# Altium footprint library Generals.PcbLib: 196 footprints (part 10 of 13)
Each footprint in its own frame and in the unit in brackets; x right, y up, seen from the top. Pads: shape width x height; smd on the part's side, far side on the other; paste and mask are expansions set on the pad; w line width, h text height; cw(c..) or ccw(c..) is an arc to the next point about the centre after c.
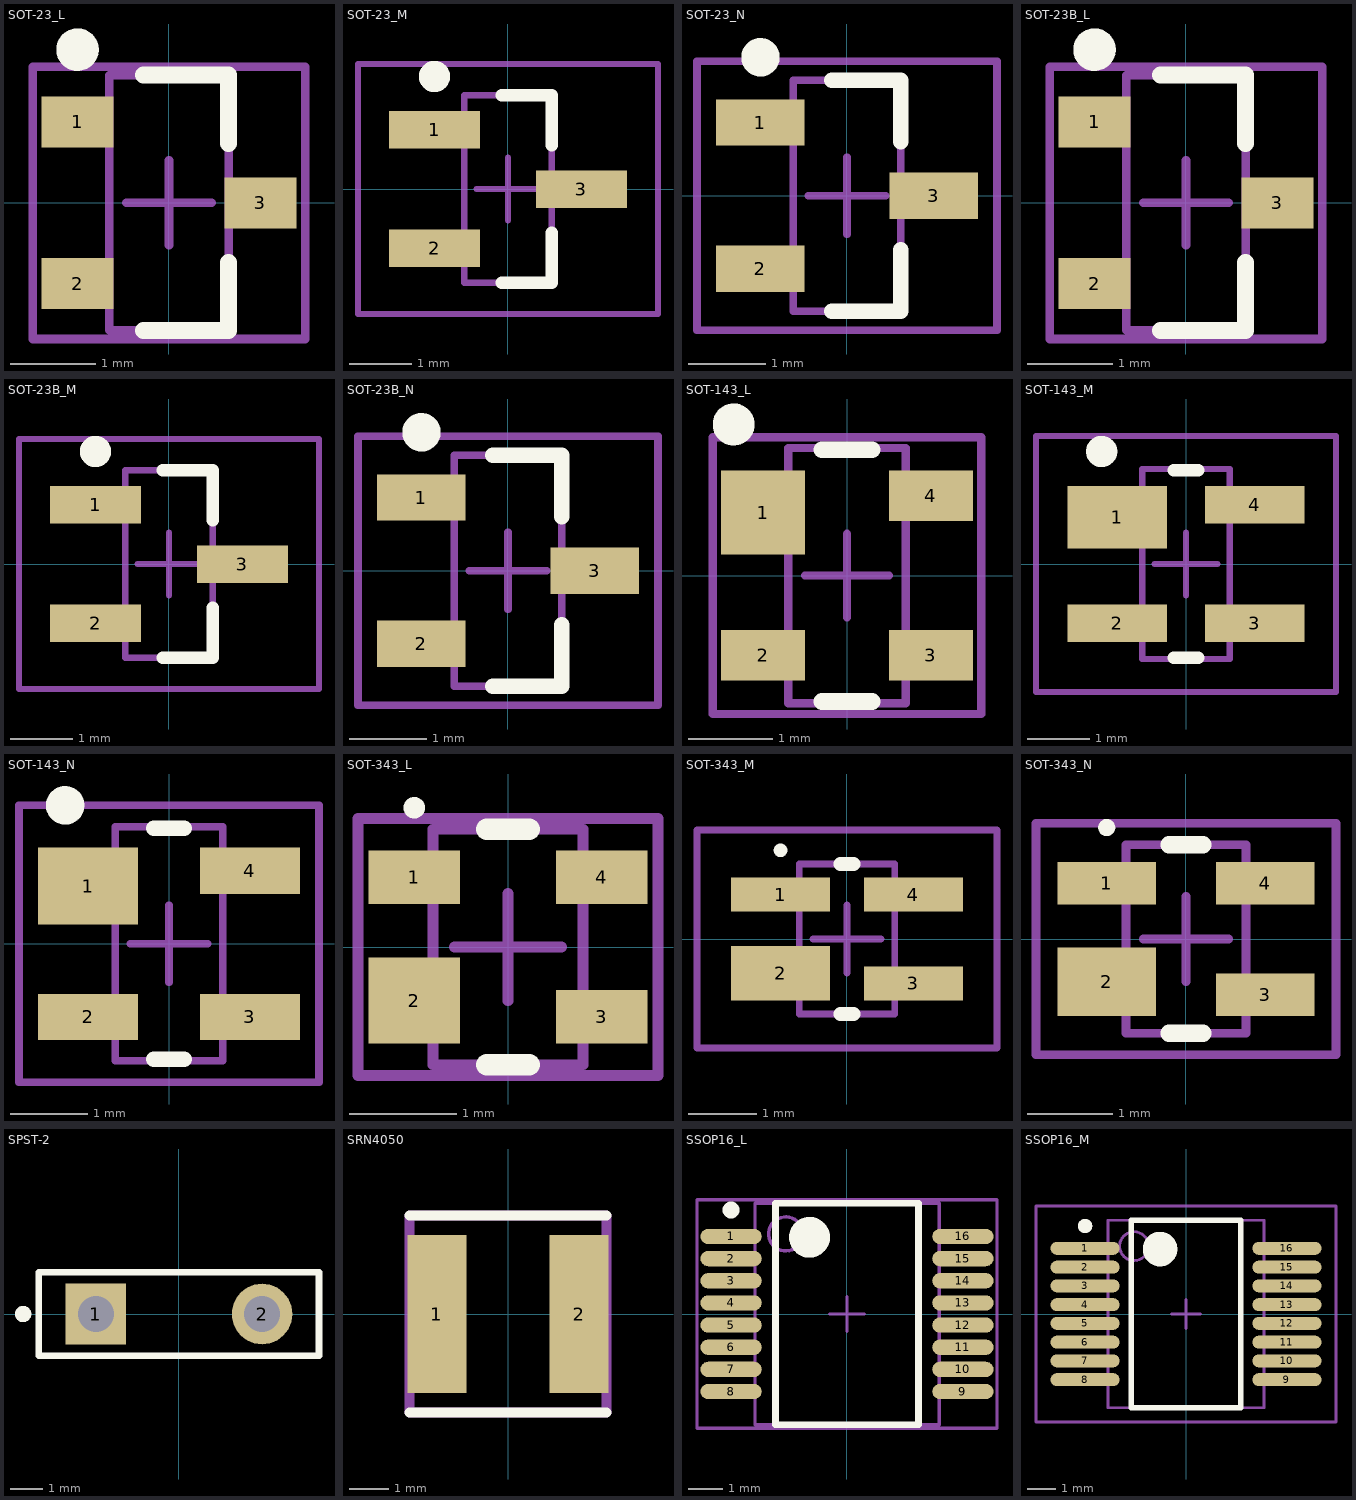
[diagram p9: the footprints below, top view; thin cyan lines are the x and y axes]

## SOT-23_L [mm] "SOT23, 3-Leads, Body 2.9x1.3mm, Pitch 0.95mm, Lead Span 2.5mm, IPC High Density"
height 1.1
pads (3):
  rect 0.85x0.6 smd: 1(-1.075,0.95) 2(-1.075,-0.95) 3(1.075,0)
Top Overlay:
  circle w0.25: c-1.075,1.8 r0.125
  lines w0.2: -0.3,-1.5 0.7,-1.5 0.7,-0.7 ; -0.3,1.5 0.7,1.5 0.7,0.7
Mechanical 13:
  lines w0.1: -0.7,-1.5 0.7,-1.5 0.7,1.5 -0.7,1.5 -0.7,-1.5
Mechanical 15:
  lines w0.1: -0.5,0 0.5,0 ; 0,-0.5 0,0.5 ; -1.6,-1.6 1.6,-1.6 1.6,1.6 -1.6,1.6 -1.6,-1.6
3D body: height 1.1, standoff 0, extent -0.7,-1.5 0.7,1.5

## SOT-23_M [mm] "SOT23, 3-Leads, Body 2.9x1.3mm, Pitch 0.95mm, Lead Span 2.5mm, IPC Low Density"
height 1.1
pads (3):
  rect 1.45x0.6 smd: 1(-1.175,0.95) 2(-1.175,-0.95) 3(1.175,0)
Top Overlay:
  circle w0.25: c-1.175,1.8 r0.125
  lines w0.2: -0.1,-1.5 0.7,-1.5 0.7,-0.7 ; -0.1,1.5 0.7,1.5 0.7,0.7
Mechanical 13:
  lines w0.1: -0.7,-1.5 0.7,-1.5 0.7,1.5 -0.7,1.5 -0.7,-1.5
Mechanical 15:
  lines w0.1: -0.5,0 0.5,0 ; 0,-0.5 0,0.5 ; -2.4,-2 2.4,-2 2.4,2 -2.4,2 -2.4,-2
3D body: height 1.1, standoff 0, extent -0.7,-1.5 0.7,1.5

## SOT-23_N [mm] "SOT23, 3-Leads, Body 2.9x1.3mm, Pitch 0.95mm, Lead Span 2.5mm, IPC Medium Density"
height 1.1
pads (3):
  rect 1.15x0.6 smd: 1(-1.125,0.95) 2(-1.125,-0.95) 3(1.125,0)
Top Overlay:
  circle w0.25: c-1.125,1.8 r0.125
  lines w0.2: -0.2,-1.5 0.7,-1.5 0.7,-0.7 ; -0.2,1.5 0.7,1.5 0.7,0.7
Mechanical 13:
  lines w0.1: -0.7,-1.5 -0.7,1.5 0.7,1.5 0.7,-1.5 -0.7,-1.5
Mechanical 15:
  lines w0.1: -0.5,0 0.5,0 ; 0,-0.5 0,0.5 ; -1.95,-1.75 -1.95,1.75 1.95,1.75 1.95,-1.75 -1.95,-1.75
3D body: height 1.1, standoff 0, extent -0.7,-1.5 0.7,1.5

## SOT-23B_L [mm] "SOT23, 3-Leads, Body 2.9x1.3mm, Pitch 0.95mm, Lead Span 2.4mm, IPC High Density"
height 1.14
pads (3):
  rect 0.85x0.6 smd: 1(-1.075,0.95) 2(-1.075,-0.95) 3(1.075,0)
Top Overlay:
  circle w0.25: c-1.075,1.8 r0.125
  lines w0.2: -0.3,-1.5 0.7,-1.5 0.7,-0.7 ; -0.3,1.5 0.7,1.5 0.7,0.7
Mechanical 13:
  lines w0.1: -0.7,-1.5 0.7,-1.5 0.7,1.5 -0.7,1.5 -0.7,-1.5
Mechanical 15:
  lines w0.1: -0.5,0 0.5,0 ; 0,-0.5 0,0.5 ; -1.6,-1.6 1.6,-1.6 1.6,1.6 -1.6,1.6 -1.6,-1.6
3D body: height 1.14, standoff 0, extent -0.7,-1.5 0.7,1.5

## SOT-23B_M [mm] "SOT23, 3-Leads, Body 2.9x1.3mm, Pitch 0.95mm, Lead Span 2.4mm, IPC Low Density"
height 1.14
pads (3):
  rect 1.45x0.6 smd: 1(-1.175,0.95) 2(-1.175,-0.95) 3(1.175,0)
Top Overlay:
  circle w0.25: c-1.175,1.8 r0.125
  lines w0.2: -0.1,-1.5 0.7,-1.5 0.7,-0.7 ; -0.1,1.5 0.7,1.5 0.7,0.7
Mechanical 13:
  lines w0.1: -0.7,-1.5 0.7,-1.5 0.7,1.5 -0.7,1.5 -0.7,-1.5
Mechanical 15:
  lines w0.1: -0.5,0 0.5,0 ; 0,-0.5 0,0.5 ; -2.4,-2 2.4,-2 2.4,2 -2.4,2 -2.4,-2
3D body: height 1.14, standoff 0, extent -0.7,-1.5 0.7,1.5

## SOT-23B_N [mm] "SOT23, 3-Leads, Body 2.9x1.3mm, Pitch 0.95mm, Lead Span 2.4mm, IPC Medium Density"
height 1.14
pads (3):
  rect 1.15x0.6 smd: 1(-1.125,0.95) 2(-1.125,-0.95) 3(1.125,0)
Top Overlay:
  circle w0.25: c-1.125,1.8 r0.125
  lines w0.2: -0.2,-1.5 0.7,-1.5 0.7,-0.7 ; -0.2,1.5 0.7,1.5 0.7,0.7
Mechanical 13:
  lines w0.1: -0.7,-1.5 0.7,-1.5 0.7,1.5 -0.7,1.5 -0.7,-1.5
Mechanical 15:
  lines w0.1: -0.5,0 0.5,0 ; 0,-0.5 0,0.5 ; -1.95,-1.75 1.95,-1.75 1.95,1.75 -1.95,1.75 -1.95,-1.75
3D body: height 1.14, standoff 0, extent -0.7,-1.5 0.7,1.5

## SOT-143_L [mm] "SOT143, 4-Leads, Body 2.9x1.3mm, Pitch 1.9mm, Lead Span 2.5mm, IPC High Density"
height 1.1
pads (4):
  rect 1x1 smd: 1(-1,0.75)
  rect 1x0.6 smd: 2(-1,-0.95) 3(1,-0.95) 4(1,0.95)
Top Overlay:
  circle w0.25: c-1.35,1.8 r0.125
  lines w0.2: -0.3,-1.5 0.3,-1.5 ; -0.3,1.5 0.3,1.5
Mechanical 13:
  lines w0.1: -0.7,-1.52 0.7,-1.52 0.7,1.52 -0.7,1.52 -0.7,-1.52
Mechanical 15:
  lines w0.1: -0.5,0 0.5,0 ; 0,-0.5 0,0.5 ; -1.6,-1.65 1.6,-1.65 1.6,1.65 -1.6,1.65 -1.6,-1.65
3D body: height 1.1, standoff 0, extent -0.7,-1.52 0.7,1.52

## SOT-143_M [mm] "SOT143, 4-Leads, Body 2.9x1.3mm, Pitch 1.9mm, Lead Span 2.5mm, IPC Low Density"
height 1.1
pads (4):
  rect 1.6x1 smd: 1(-1.1,0.75)
  rect 1.6x0.6 smd: 2(-1.1,-0.95) 3(1.1,-0.95) 4(1.1,0.95)
Top Overlay:
  circle w0.25: c-1.35,1.8 r0.125
  lines w0.2: -0.2,-1.5 0.2,-1.5 ; -0.2,1.5 0.2,1.5
Mechanical 13:
  lines w0.1: -0.7,-1.52 -0.7,1.52 0.7,1.52 0.7,-1.52 -0.7,-1.52
Mechanical 15:
  lines w0.1: -0.5,0 0.5,0 ; 0,-0.5 0,0.5 ; -2.4,-2.05 -2.4,2.05 2.4,2.05 2.4,-2.05 -2.4,-2.05
3D body: height 1.1, standoff 0, extent -0.7,-1.52 0.7,1.52

## SOT-143_N [mm] "SOT143, 4-Leads, Body 2.9x1.3mm, Pitch 1.9mm, Lead Span 2.5mm, IPC Medium Density"
height 1.1
pads (4):
  rect 1.3x1 smd: 1(-1.05,0.75)
  rect 1.3x0.6 smd: 2(-1.05,-0.95) 3(1.05,-0.95) 4(1.05,0.95)
Top Overlay:
  circle w0.25: c-1.35,1.8 r0.125
  lines w0.2: -0.2,-1.5 0.2,-1.5 ; -0.2,1.5 0.2,1.5
Mechanical 13:
  lines w0.1: -0.7,-1.52 -0.7,1.52 0.7,1.52 0.7,-1.52 -0.7,-1.52
Mechanical 15:
  lines w0.1: -0.5,0 0.5,0 ; 0,-0.5 0,0.5 ; -1.95,-1.8 -1.95,1.8 1.95,1.8 1.95,-1.8 -1.95,-1.8
3D body: height 1.1, standoff 0, extent -0.7,-1.52 0.7,1.52

## SOT-343_L [mm] "SOT343, 4-Leads, Body 2x1.3 mm, Pitch 1.3mm, Lead Span 2.1mm, IPC High Density"
height 1
pads (4):
  rect 0.85x0.5 smd: 1(-0.875,0.65) 3(0.875,-0.65) 4(0.875,0.65)
  rect 0.85x0.8 smd: 2(-0.875,-0.5)
Top Overlay:
  circle w0.1: c-0.875,1.3 r0.05
  lines w0.2: -0.2,-1.1 0.2,-1.1 ; -0.2,1.1 0.2,1.1
Mechanical 13:
  lines w0.1: -0.7,-1.1 0.7,-1.1 0.7,1.1 -0.7,1.1 -0.7,-1.1
Mechanical 15:
  lines w0.1: -0.5,0 0.5,0 ; 0,-0.5 0,0.5 ; -1.4,-1.2 1.4,-1.2 1.4,1.2 -1.4,1.2 -1.4,-1.2
3D body: height 1, standoff 0, extent -0.7,-1.1 0.7,1.1

## SOT-343_M [mm] "SOT343, 4-Leads, Body 2x1.3 mm, Pitch 1.3mm, Lead Span 2.1mm, IPC Low Density"
height 1
pads (4):
  rect 1.45x0.5 smd: 1(-0.975,0.65) 3(0.975,-0.65) 4(0.975,0.65)
  rect 1.45x0.8 smd: 2(-0.975,-0.5)
Top Overlay:
  circle w0.1: c-0.975,1.3 r0.05
  lines w0.2: -0.1,-1.1 0.1,-1.1 ; -0.1,1.1 0.1,1.1
Mechanical 13:
  lines w0.1: -0.7,-1.1 0.7,-1.1 0.7,1.1 -0.7,1.1 -0.7,-1.1
Mechanical 15:
  lines w0.1: -0.5,0 0.5,0 ; 0,-0.5 0,0.5 ; -2.2,-1.6 2.2,-1.6 2.2,1.6 -2.2,1.6 -2.2,-1.6
3D body: height 1, standoff 0, extent -0.7,-1.1 0.7,1.1

## SOT-343_N [mm] "SOT343, 4-Leads, Body 2x1.3 mm, Pitch 1.3mm, Lead Span 2.1mm, IPC Medium Density"
height 1
pads (4):
  rect 1.15x0.5 smd: 1(-0.925,0.65) 3(0.925,-0.65) 4(0.925,0.65)
  rect 1.15x0.8 smd: 2(-0.925,-0.5)
Top Overlay:
  circle w0.1: c-0.925,1.3 r0.05
  lines w0.2: -0.2,-1.1 0.2,-1.1 ; -0.2,1.1 0.2,1.1
Mechanical 13:
  lines w0.1: -0.7,-1.1 0.7,-1.1 0.7,1.1 -0.7,1.1 -0.7,-1.1
Mechanical 15:
  lines w0.1: -0.5,0 0.5,0 ; 0,-0.5 0,0.5 ; -1.75,-1.35 1.75,-1.35 1.75,1.35 -1.75,1.35 -1.75,-1.35
3D body: height 1, standoff 0, extent -0.7,-1.1 0.7,1.1

## SPST-2 [mm] "Switch; 2 Leads"
pads (2):
  rect 1.85x1.85 hole 1.1: 1(-2.54,0)
  round 1.85 hole 1.1: 2(2.54,0)
Top Overlay:
  circle w0.25: c-4.761,-0.001 r0.125
  lines w0.2: -4.28,-1.27 -4.28,1.27 4.28,1.27 4.28,-1.27 -4.28,-1.27

## SRN4050 [mm] "SRN5040 Series - Semi-shielded Power Inductors"
pads (2):
  rect 1.5x4 smd: 1(-1.8,0) 2(1.8,0)
Top Overlay:
  lines w0.254: -2.5,-2.5 2.5,-2.5 ; -2.5,2.5 2.5,2.5
Mechanical 15:
  lines w0.254: -2.5,-2.5 -2.5,2.5 2.5,2.5 2.5,-2.5 -2.5,-2.5
3D body: height 4, standoff 0, extent -2.54,-2.54 2.54,2.54

## SSOP16_L [mm] "SOP, 16-Leads, Body 6.2x5.3mm, Pitch 0.65mm, IPC High Density"
height 2
pads (16):
  oval 1.8x0.45 smd: 1(-3.4,2.275) 2(-3.4,1.625) 3(-3.4,0.975) 4(-3.4,0.325) 5(-3.4,-0.325) 6(-3.4,-0.975) 7(-3.4,-1.625) 8(-3.4,-2.275) 9(3.4,-2.275) 10(3.4,-1.625) 11(3.4,-0.975) 12(3.4,-0.325) 13(3.4,0.325) 14(3.4,0.975) 15(3.4,1.625) 16(3.4,2.275)
Top Overlay:
  circle w0.6: c-1.1,2.25 r0.3
  circle w0.25: c-3.4,3.05 r0.125
  lines w0.2: -2.1,-3.25 2.1,-3.25 2.1,3.25 -2.1,3.25 -2.1,-3.25
Mechanical 13:
  circle w0.1: c-1.8,2.35 r0.5
  lines w0.1: -2.7,-3.25 2.7,-3.25 2.7,3.25 -2.7,3.25 -2.7,-3.25
Mechanical 15:
  lines w0.1: -0.5,0 0.5,0 ; 0,-0.5 0,0.5 ; -4.4,-3.35 4.4,-3.35 4.4,3.35 -4.4,3.35 -4.4,-3.35
3D body: height 2, standoff 0, extent -2.7,-3.25 2.7,3.25

## SSOP16_M [mm] "SOP, 16-Leads, Body 6.2x5.3mm, Pitch 0.65mm, IPC Low Density"
height 2
pads (16):
  oval 2.4x0.45 smd: 1(-3.5,2.275) 2(-3.5,1.625) 3(-3.5,0.975) 4(-3.5,0.325) 5(-3.5,-0.325) 6(-3.5,-0.975) 7(-3.5,-1.625) 8(-3.5,-2.275) 9(3.5,-2.275) 10(3.5,-1.625) 11(3.5,-0.975) 12(3.5,-0.325) 13(3.5,0.325) 14(3.5,0.975) 15(3.5,1.625) 16(3.5,2.275)
Top Overlay:
  circle w0.25: c-3.5,3.05 r0.125
  circle w0.6: c-0.9,2.25 r0.3
  lines w0.2: -1.9,-3.25 -1.9,3.25 1.9,3.25 1.9,-3.25 -1.9,-3.25
Mechanical 13:
  circle w0.1: c-1.8,2.35 r0.5
  lines w0.1: -2.7,-3.25 -2.7,3.25 2.7,3.25 2.7,-3.25 -2.7,-3.25
Mechanical 15:
  lines w0.1: -0.5,0 0.5,0 ; 0,-0.5 0,0.5 ; -5.2,-3.75 -5.2,3.75 5.2,3.75 5.2,-3.75 -5.2,-3.75
3D body: height 2, standoff 0, extent -2.7,-3.25 2.7,3.25